# Altium schematic symbol library STUSB4500.SchLib: 1 symbol
Pins are listed as number, name and electrical type; pins without a type are passive.

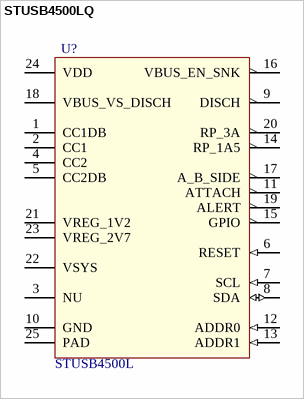
[diagram p0: symbol STUSB4500LQ]

## STUSB4500LQ
designator U?  value STUSB4500L  (hidden comment: STUSB4500LQ)
Standalone USB Type-C™ sink port controller
footprint QFN-24-4x4 (24-Pin Plastic Quad Flat No-Lead 0.5 mm Pitch, IPC Low Density)
pins: 1 CC1DB "Dead battery enable on CC1 pin", 2 CC1 "Type-C configuration channel 1", 3 NU, 4 CC2 "Type-C configuration channel 2", 5 CC2DB "Dead battery enable on CC2 pin", 6 RESET (in) "Reset input, active high", 7 SCL (in) "I2C clock input", 8 SDA (io) "I2C data input/output, active low open drain", 9 DISCH "Internal discharge path or external discharge path enablee, active low open", 10 GND (power) "Ground", 11 ATTACH (oc) "Attachment detection, active low open", 12 ADDR0 (in) "I²C device address setting", 13 ADDR1 (in) "I²C device address setting", 14 RP_1A5 (oc) "1.5 A source flag, active low open drain", 15 GPIO (oc) "General purpose output, active low open", 16 VBUS_EN_SNK (oc) "VBUS sink power path enable, active low", 17 A_B_SIDE (oc) "Cable orientation, active low open drain", 18 VBUS_VS_DISCH "VBUS voltage monitoring and discharge", 19 ALERT (oc) "I2C interrupt, active low open drain", 20 RP_3A (oc) "3 A source flag, active low open drain", 21 VREG_1V2 (power) "1.2 V internal regulator output", 22 VSYS (power) "Power supply from system", 23 VREG_2V7 (power) "2.7 V internal regulator output", 24 VDD (power) "Power supply from USB power line", 25 PAD "Exposed pad is connected to ground"